# Altium footprint library SC.PcbLib: 4 footprints
Each footprint in its own frame and in the unit in brackets; x right, y up, seen from the top. Pads: shape width x height; smd on the part's side, far side on the other; paste and mask are expansions set on the pad; w line width, h text height; cw(c..) or ccw(c..) is an arc to the next point about the centre after c.
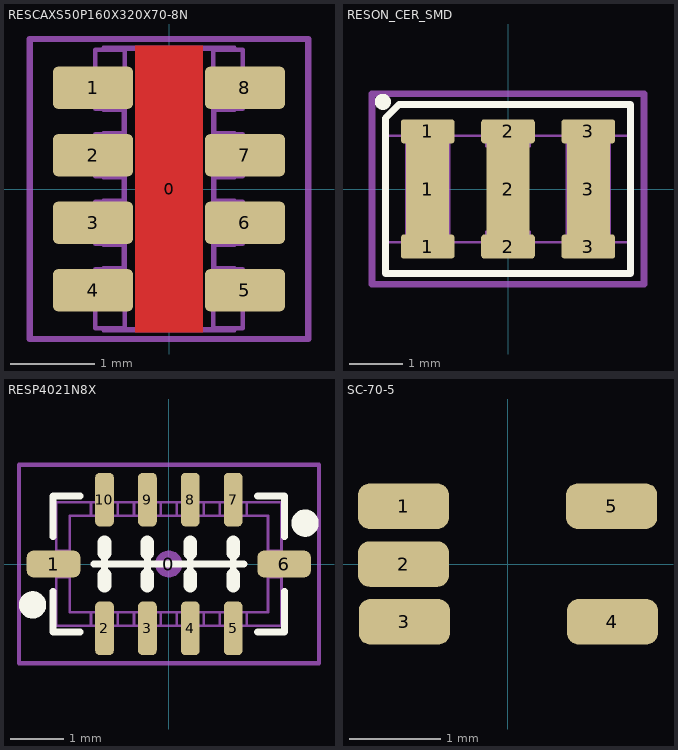
[diagram p0: the footprints below, top view; thin cyan lines are the x and y axes]

## RESCAXS50P160X320X70-8N [mm] "Resistor Pack, Body 1.6x3.2mm, 4x0603, IPC Medium Density"
height 0.7
pads (9):
  round 0.254 on Mech15: 0(0,0)
  rrect25% 0.95x0.5 smd: 1(-0.9,1.2) 2(-0.9,0.4) 3(-0.9,-0.4) 4(-0.9,-1.2) 5(0.9,-1.2) 6(0.9,-0.4) 7(0.9,0.4) 8(0.9,1.2)
Top Layer:
  pour cut-out: -0.4,1.7 0.4,1.7 0.4,-1.7 -0.4,-1.7
Top Solder:
  rectangle: -1.3,-1.2 -0.5,1.2
  region: 1.3,1.2 0.5,1.2 0.5,-1.2 1.3,-1.2
Mechanical 13:
  lines w0.05: -0.775,-1.65 -0.775,-1.675 0.775,-1.675 0.775,-1.65 ; -0.775,-0.95 -0.775,-0.938 -0.537,-0.938 -0.537,-0.663 -0.775,-0.663 -0.775,-0.65 ; -0.775,-0.15 -0.775,-0.138 -0.537,-0.138 -0.537,0.138 -0.775,0.138 -0.775,0.15 ; -0.775,0.65 -0.775,0.663 -0.537,0.663 -0.537,0.938 -0.775,0.938 -0.775,0.95 ; -0.775,1.65 -0.775,1.675 0.775,1.675 0.775,1.65 ; -0.525,-1.65 -0.875,-1.65 -0.875,-0.95 -0.525,-0.95 ; -0.525,-0.65 -0.875,-0.65 -0.875,-0.15 -0.525,-0.15 ; -0.525,0.15 -0.875,0.15 -0.875,0.65 -0.525,0.65 ; -0.525,0.95 -0.875,0.95 -0.875,1.65 -0.525,1.65 ; 0.525,-1.65 0.875,-1.65 0.875,-0.95 0.525,-0.95 ; 0.525,-0.65 0.875,-0.65 0.875,-0.15 0.525,-0.15 ; 0.525,0.15 0.875,0.15 0.875,0.65 0.525,0.65 ; 0.525,0.95 0.875,0.95 0.875,1.65 0.525,1.65 ; 0.775,-0.95 0.775,-0.938 0.537,-0.938 0.537,-0.663 0.775,-0.663 0.775,-0.65 ; 0.775,-0.15 0.775,-0.138 0.537,-0.138 0.537,0.138 0.775,0.138 0.775,0.15 ; 0.775,0.65 0.775,0.663 0.537,0.663 0.537,0.938 0.775,0.938 0.775,0.95 ; -0.525,-1.663 0.525,-1.663 0.525,1.663 -0.525,1.663 -0.525,-1.663
Mechanical 15:
  lines w0.076: -1.651,-1.778 1.651,-1.778 1.651,1.778 -1.651,1.778 -1.651,-1.778
3D body "RESCAXS50P32X16X70-8N.STEP": height 0.7, standoff 0, extent -0.875,-1.675 0.875,1.675

## RESON_CER_SMD [mm] "SMD Ceramic Resonator 4.5mmx2mm"
height 1.2
pads (9):
  rrect25% 1x0.45 smd: 1(-1.499,-1.074) 1(-1.499,1.075) 2(0,-1.074) 2(0,1.075) 3(1.499,-1.074) 3(1.499,1.075)
  rrect25% 0.8x2.6 smd: 1(-1.499,0) 2(0,0) 3(1.499,0)
Top Overlay:
  circle w0.15: c-2.336,1.626 r0.075
  lines w0.127: -2.286,-1.575 2.286,-1.575 ; -2.286,-1.549 -2.286,1.321 -2.032,1.575 2.286,1.575 2.286,-1.549
Mechanical 13:
  lines w0.05: -1.9,-0.995 -1.1,-0.995 ; -1.9,-0.995 -1.9,0.995 ; -1.9,-0.995 -2.25,-0.994 -2.25,0.994 -1.9,0.995 ; -1.9,0.995 -1.1,0.995 ; -1.1,-0.995 -1.1,0.995 ; -1.1,-0.995 -0.4,-0.994 ; -1.1,0.994 -0.4,0.995 ; -0.4,-0.995 0.4,-0.995 ; -0.4,-0.995 -0.4,-0.795 0.4,-0.795 0.4,-0.995 ; -0.4,0.995 0.4,0.995 ; -0.4,0.995 -0.4,0.795 0.4,0.795 0.4,0.995 ; 0.4,-0.995 1.1,-0.994 ; 0.4,0.994 1.1,0.995 ; 1.1,-0.995 1.9,-0.995 ; 1.1,-0.995 1.1,0.995 ; 1.1,0.995 1.9,0.995 ; 1.9,-0.995 1.9,0.995 ; 1.9,-0.995 2.25,-0.994 2.25,0.994 1.9,0.995
Mechanical 15:
  lines w0.127: -2.54,-1.778 -2.54,1.778 2.54,1.778 2.54,-1.778 -2.54,-1.778
3D body "RESON_CERM.STEP": height 1.19, standoff 0, extent -2.25,-0.995 2.25,0.995

## RESP4021N8X [mm] "Resistor Pack, Body 4.0x2.1mm, 8 elements bussed, IPC Medium Density"
height 0.65
pads (11):
  round 0.508 on Mech15: 0(0,0)
  rrect50% 1x0.5 smd: 1(-2.15,0) 6(2.15,0)
  rrect50% 0.35x1 smd: 2(-1.2,-1.2) 3(-0.4,-1.2) 4(0.4,-1.2) 5(1.2,-1.2) 7(1.2,1.2) 8(0.4,1.2) 9(-0.4,1.2) 10(-1.2,1.2)
Top Overlay:
  circle w0.254: c2.54,0.762 r0.127
  circle w0.254: c-2.54,-0.762 r0.127
  lines w0.127: -2.159,-0.508 -2.159,-1.27 -1.651,-1.27 ; -2.159,0.508 -2.159,1.27 -1.651,1.27 ; -1.4,0 1.4,0 ; -1.2,-0.2 -1.2,0.2 ; -0.4,-0.2 -0.4,0.2 ; 0.4,-0.2 0.4,0.2 ; 1.2,-0.2 1.2,0.2 ; 1.651,-1.27 2.159,-1.27 2.159,-0.508 ; 1.651,1.27 2.159,1.27 2.159,0.508
  lines w0.254: -1.2,-0.4 -1.2,-0.2 ; -1.2,0.2 -1.2,0.4 ; -0.4,-0.4 -0.4,-0.2 ; -0.4,0.2 -0.4,0.4 ; 0.4,-0.4 0.4,-0.2 ; 0.4,0.2 0.4,0.4 ; 1.2,-0.4 1.2,-0.2 ; 1.2,0.2 1.2,0.4
Mechanical 13:
  lines w0.05: -1.85,-0.25 -2.1,-0.25 ; -1.85,0.25 -2.1,0.25 ; -1.45,-0.9 -1.45,-1.15 ; -1.45,0.9 -1.45,1.15 ; -0.95,-0.9 -0.95,-1.15 ; -0.95,0.9 -0.95,1.15 ; -0.65,-1.149 -0.95,-1.15 ; -0.65,-0.9 -0.65,-1.15 -0.55,-1.15 cw(c-0.4,-1.15) -0.25,-1.15 -0.15,-1.15 ; -0.65,0.9 -0.65,1.15 -0.55,1.15 ccw(c-0.4,1.15) -0.25,1.15 -0.15,1.15 ; -0.65,1.149 -0.95,1.15 ; -0.15,-0.9 -0.15,-1.15 ; -0.15,0.9 -0.15,1.15 ; 0.15,-1.149 -0.15,-1.15 ; 0.15,-0.9 0.15,-1.15 0.25,-1.15 cw(c0.4,-1.15) 0.55,-1.15 0.65,-1.15 ; 0.15,0.9 0.15,1.15 0.25,1.15 ccw(c0.4,1.15) 0.55,1.15 0.65,1.15 ; 0.15,1.149 -0.15,1.15 ; 0.65,-0.9 0.65,-1.15 ; 0.65,0.9 0.65,1.15 ; 0.95,-1.149 0.65,-1.15 ; 0.95,-0.9 0.95,-1.15 1.05,-1.15 cw(c1.2,-1.15) 1.35,-1.15 1.45,-1.15 ; 0.95,0.9 0.95,1.15 1.05,1.15 ccw(c1.2,1.15) 1.35,1.15 1.45,1.15 ; 0.95,1.149 0.65,1.15 ; 1.45,-0.9 1.45,-1.15 ; 1.45,0.9 1.45,1.15 ; 1.85,-0.25 2.1,-0.25 ; 1.85,0.25 2.1,0.25 ; -2.1,-0.25 -2.099,-1.149 -1.45,-1.15 ; -2.1,-0.25 -2.1,-0.15 ccw(c-2.1,0) -2.1,0.15 -2.1,0.25 ; -2.1,0.25 -2.099,1.149 -1.45,1.15 ; -1.45,-1.15 -1.35,-1.15 cw(c-1.2,-1.15) -1.05,-1.15 -0.95,-1.15 ; -1.45,1.15 -1.35,1.15 ccw(c-1.2,1.15) -1.05,1.15 -0.95,1.15 ; 1.45,-1.15 2.099,-1.149 2.1,-0.25 ; 1.45,1.15 2.099,1.149 2.1,0.25 ; 2.1,-0.25 2.1,-0.15 cw(c2.1,0) 2.1,0.15 2.1,0.25 ; -1.85,-0.9 1.85,-0.9 1.85,0.9 -1.85,0.9 -1.85,-0.9
Mechanical 15:
  lines w0.076: -2.794,-1.85 -2.794,1.85 2.8,1.85 2.8,-1.85 -2.794,-1.85
3D body "RES_ARRAY_EXBE.STEP": height 0.65, standoff 0, extent -2.1,-1.15 2.1,1.15

## SC-70-5 [mm] "SOT353, SC70, EIAJ SC-70 5-lead SMD package, most material condition"
pads (5):
  rrect50% 1x0.5 smd: 1(-1.143,0.635) 2(-1.143,0) 3(-1.134,-0.635) 4(1.152,-0.635) 5(1.143,0.635)
3D body "User Library-SOT353-1.step": height 1.1, standoff 0, extent -1.2,-1.1 1.2,1.1